# Altium footprint library DT1608.PcbLib: 1 footprints
Each footprint in its own frame and in the unit in brackets; x right, y up, seen from the top. Pads: shape width x height; smd on the part's side, far side on the other; paste and mask are expansions set on the pad; w line width, h text height; cw(c..) or ccw(c..) is an arc to the next point about the centre after c.
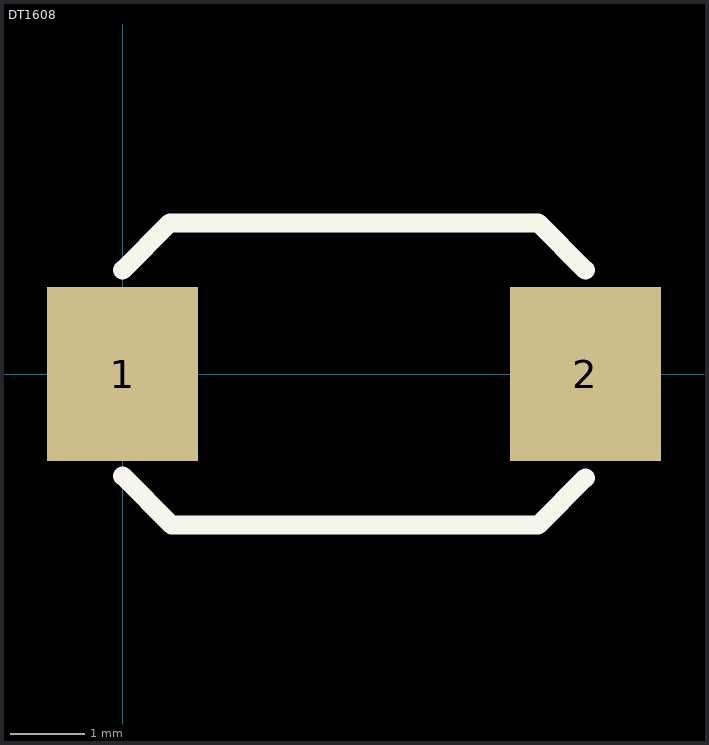
[diagram p0: the footprint, top view; thin cyan lines are the x and y axes]

## DT1608 [mil]
height 110
pads (2):
  rect 80x92 smd: 1(0,0) 2(245,0)
TopOverlay:
  lines w10: 0,-54 26,-80 46,-80 199,-80 220,-80 245,-55 ; 0,55 25,80 46,80 199,80 220,80 245,55
Mechanical4:
  text ".075" at 0,0 h1
3D body: height 115.6, standoff 0.6, extent -6.47,-86.66 253.53,88.34